# Altium schematic symbol library Schlib1.SchLib: 49 symbols
Pins are listed as number, name and electrical type; pins without a type are passive.

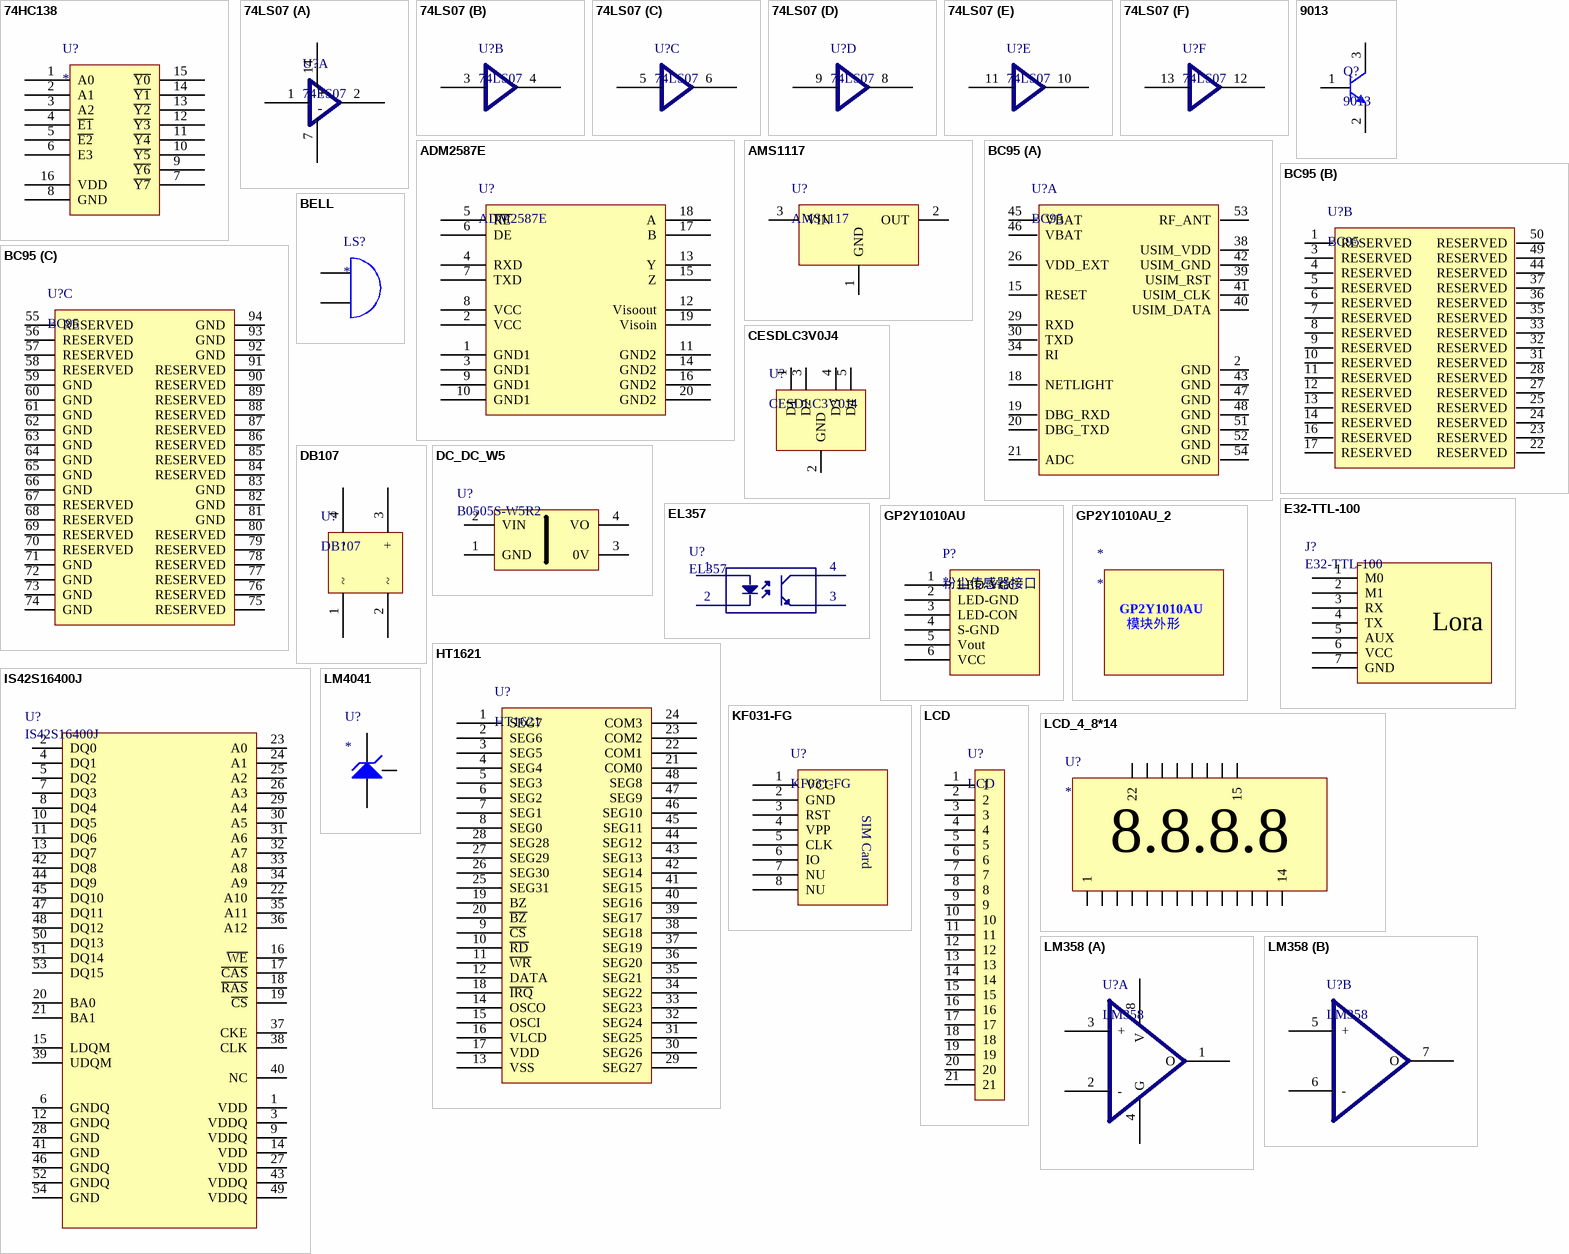
[diagram p0: symbols 74HC138 to LM4041]

## 74HC138
designator U?
pins: 1 A0, 2 A1, 3 A2, 4 ~{E1}, 5 ~{E2}, 6 E3, 7 ~{Y7}, 8 GND, 9 ~{Y6}, 10 ~{Y5}, 11 ~{Y4}, 12 ~{Y3}, 13 ~{Y2}, 14 ~{Y1}, 15 ~{Y0}, 16 VDD

## 74LS07
designator U?
part A pins: 1, 2, 7, 14
part B pins: 3, 4
part C pins: 5, 6
part D pins: 8, 9
part E pins: 10, 11
part F pins: 12, 13
part A text: +; -

## 9013
designator Q?
pins: 1 E, 2 B, 3 C

## ADM2587E
designator U?
pins: 1 GND1, 2 VCC, 3 GND1, 4 RXD, 5 ~{RE}, 6 DE, 7 TXD, 8 VCC, 9 GND1, 10 GND1, 11 GND2, 12 Visoout, 13 Y, 14 GND2, 15 Z, 16 GND2, 17 B, 18 A, 19 Visoin, 20 GND2

## AMS1117
designator U?
pins: 1 GND, 2 OUT, 3 VIN

## BC95
designator U?
part A pins: 2 GND, 15 RESET, 18 NETLIGHT, 19 DBG_RXD, 20 DBG_TXD, 21 ADC, 26 VDD_EXT, 29 RXD, 30 TXD, 34 RI, 38 USIM_VDD, 39 USIM_RST, 40 USIM_DATA, 41 USIM_CLK, 42 USIM_GND, 43 GND, 45 VBAT, 46 VBAT, 47 GND, 48 GND, 51 GND, 52 GND, 53 RF_ANT, 54 GND
part B pins: 1 RESERVED, 3 RESERVED, 4 RESERVED, 5 RESERVED, 6 RESERVED, 7 RESERVED, 8 RESERVED, 9 RESERVED, 10 RESERVED, 11 RESERVED, 12 RESERVED, 13 RESERVED, 14 RESERVED, 16 RESERVED, 17 RESERVED, 22 RESERVED, 23 RESERVED, 24 RESERVED, 25 RESERVED, 27 RESERVED, 28 RESERVED, 31 RESERVED, 32 RESERVED, 33 RESERVED, 35 RESERVED, 36 RESERVED, 37 RESERVED, 44 RESERVED, 49 RESERVED, 50 RESERVED
part C pins: 55 RESERVED, 56 RESERVED, 57 RESERVED, 58 RESERVED, 59 GND, 60 GND, 61 GND, 62 GND, 63 GND, 64 GND, 65 GND, 66 GND, 67 RESERVED, 68 RESERVED, 69 RESERVED, 70 RESERVED, 71 GND, 72 GND, 73 GND, 74 GND, 75 RESERVED, 76 RESERVED, 77 RESERVED, 78 RESERVED, 79 RESERVED, 80 RESERVED, 81 GND, 82 GND, 83 GND, 84 RESERVED, 85 RESERVED, 86 RESERVED, 87 RESERVED, 88 RESERVED, 89 RESERVED, 90 RESERVED, 91 RESERVED, 92 GND, 93 GND, 94 GND

## BELL
designator LS?
pins: 1 A, 2 B

## CESDLC3V0J4
designator U?
footprint CESDLC3V0J4
pins: 1 D1, 2 GND, 3 D2, 4 D3, 5 D4

## DB107
designator U?
pins: 1 ~, 2 ~, 3 +, 4 -

## DC_DC_W5
designator U?, comment B0505S-W5R2
DC-DC隔离模块，5V输出，0.5W; brand: 金升阳
pins: 1 GND, 2 VIN, 3 0V, 4 VO

## E32-TTL-100
designator J?
亿佰特Lora模块接口
pins: 1 M0, 2 M1, 3 RX, 4 TX, 5 AUX, 6 VCC, 7 GND
text: Lora

## EL357
designator U?
贴片光耦; brand: 亿光
pins: 1, 2, 3, 4

## GP2Y1010AU
designator P?, comment 粉尘传感器接口
pins: 1 LED-VCC, 2 LED-GND, 3 LED-CON, 4 S-GND, 5 Vout, 6 VCC

## GP2Y1010AU_2
designator *
text: GP2Y1010AU / 模块外形

## HT1621
designator U?
pins: 1 SEG7, 2 SEG6, 3 SEG5, 4 SEG4, 5 SEG3, 6 SEG2, 7 SEG1, 8 SEG0, 9 ~{CS}, 10 ~{RD}, 11 ~{WR}, 12 DATA, 13 VSS, 14 OSCO, 15 OSCI, 16 VLCD, 17 VDD, 18 ~{IRQ}, 19 BZ, 20 ~{BZ}, 21 COM0, 22 COM1, 23 COM2, 24 COM3, 25 SEG31, 26 SEG30, 27 SEG29, 28 SEG28, 29 SEG27, 30 SEG26, 31 SEG25, 32 SEG24, 33 SEG23, 34 SEG22, 35 SEG21, 36 SEG20, 37 SEG19, 38 SEG18, 39 SEG17, 40 SEG16, 41 SEG15, 42 SEG14, 43 SEG13, 44 SEG12, 45 SEG11, 46 SEG10, 47 SEG9, 48 SEG8

## IS42S16400J
designator U?
footprint TSOP(II)-54
pins: 1 VDD, 2 DQ0, 3 VDDQ, 4 DQ1, 5 DQ2, 6 GNDQ, 7 DQ3, 8 DQ4, 9 VDDQ, 10 DQ5, 11 DQ6, 12 GNDQ, 13 DQ7, 14 VDD, 15 LDQM, 16 ~{WE}, 17 ~{CAS}, 18 ~{RAS}, 19 ~{CS}, 20 BA0, 21 BA1, 22 A10, 23 A0, 24 A1, 25 A2, 26 A3, 27 VDD, 28 GND, 29 A4, 30 A5, 31 A6, 32 A7, 33 A8, 34 A9, 35 A11, 36 A12, 37 CKE, 38 CLK, 39 UDQM, 40 NC, 41 GND, 42 DQ8, 43 VDDQ, 44 DQ9, 45 DQ10, 46 GNDQ, 47 DQ11, 48 DQ12, 49 VDDQ, 50 DQ13, 51 DQ14, 52 GNDQ, 53 DQ15, 54 GND

## KF031-FG
designator U?
footprint KF031-FG (Footprint not found)
pins: 1 VCC, 2 GND, 3 RST, 4 VPP, 5 CLK, 6 IO, 7 NU, 8 NU
text: SIM Card

## LCD
designator U?
pins: 1, 2, 3, 4, 5, 6, 7, 8, 9, 10, 11, 12, 13, 14, 15, 16, 17, 18, 19, 20, 21

## LCD_4_8*14
designator U?
pins: 1, 2, 3, 4, 5, 6, 7, 8, 9, 10, 11, 12, 13, 14, 15, 16, 17, 18, 19, 20, 21, 22
text: 8.8.8.8

## LM358
designator U?
part A pins: 1 O, 2 -, 3 +, 4 G, 8 V
part B pins: 5 +, 6 -, 7 O

## LM4041
designator U?
pins: 1, 2, 3

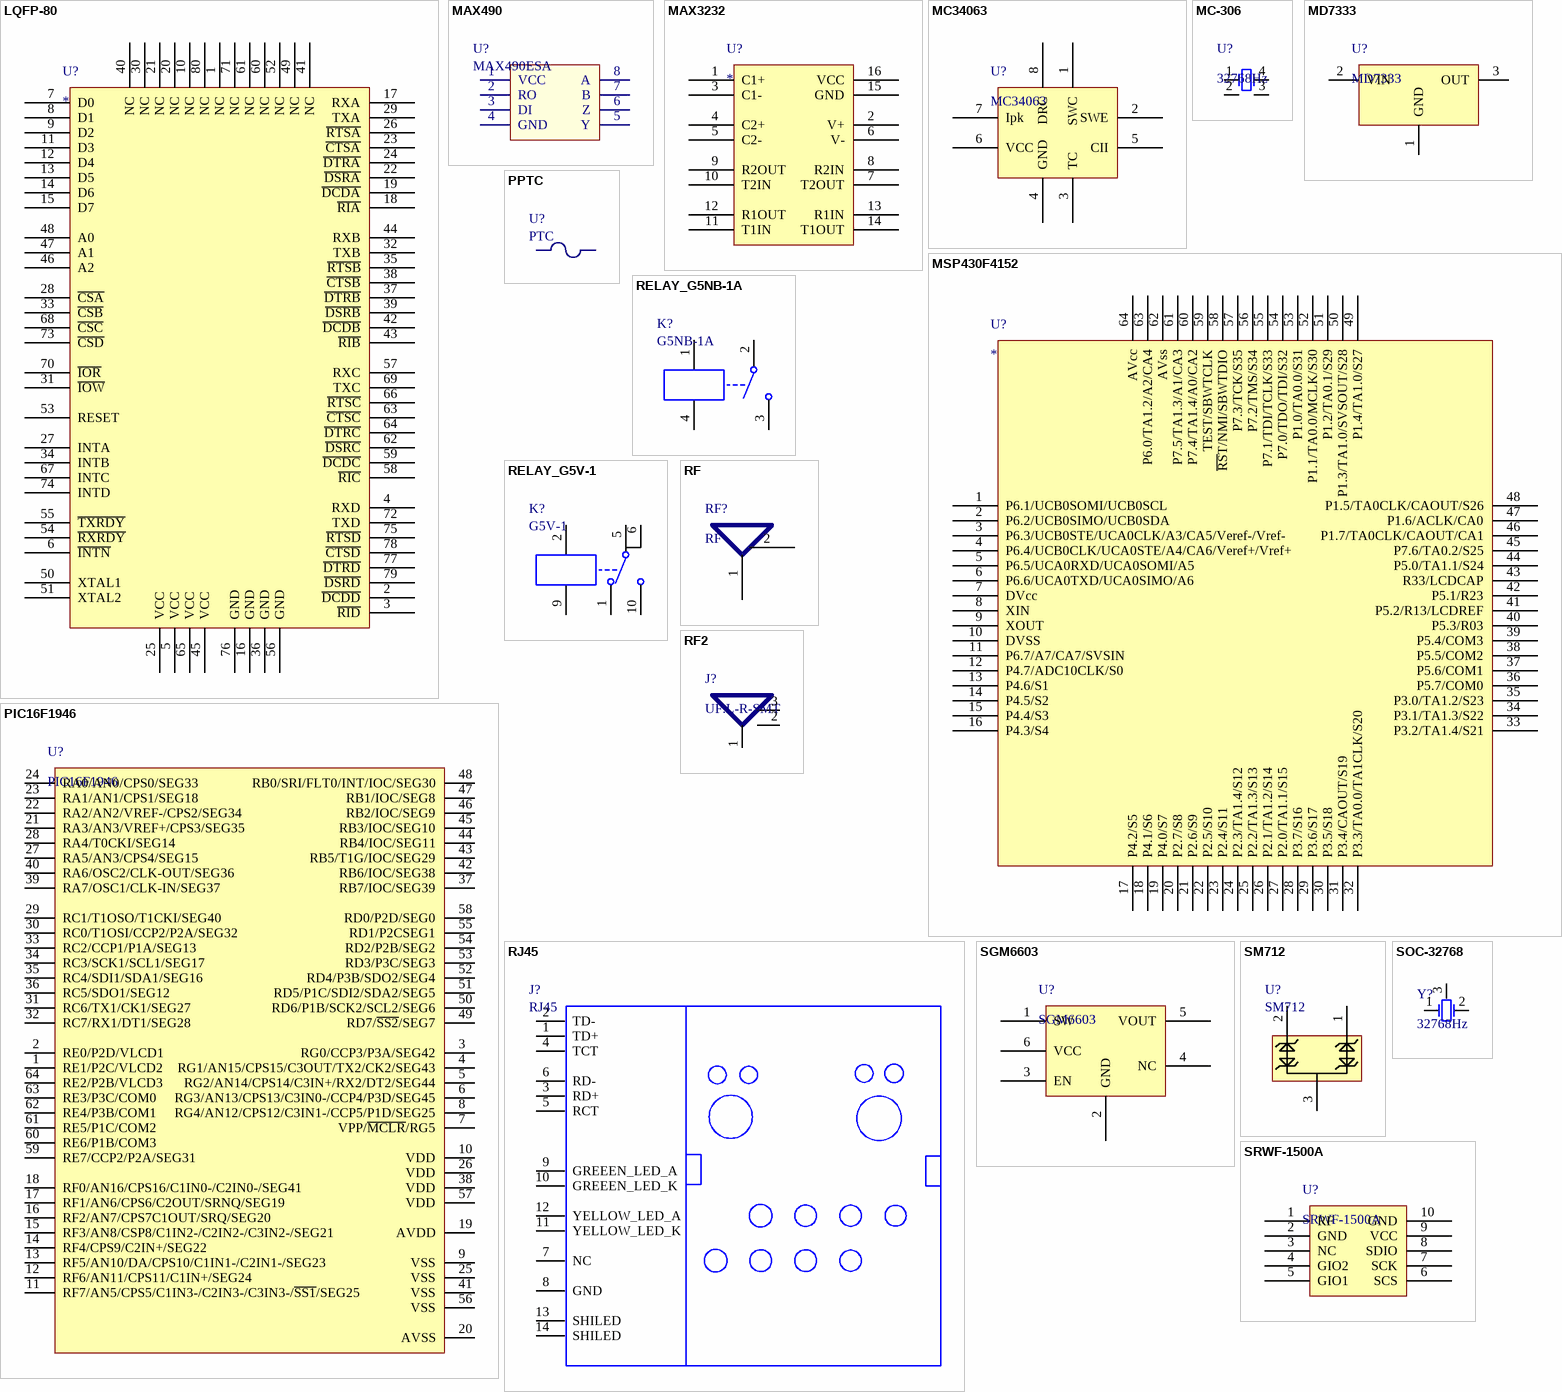
[diagram p1: symbols LQFP-80 to SRWF-1500A]

## LQFP-80
designator U?
pins: 1 NC, 2 ~{DCDD}, 3 ~{RID}, 4 RXD, 5 VCC, 6 ~{INTN}, 7 D0, 8 D1, 9 D2, 10 NC, 11 D3, 12 D4, 13 D5, 14 D6, 15 D7, 16 GND, 17 RXA, 18 ~{RIA}, 19 ~{DCDA}, 20 NC, 21 NC, 22 ~{DSRA}, 23 ~{CTSA}, 24 ~{DTRA}, 25 VCC, 26 ~{RTSA}, 27 INTA, 28 ~{CSA}, 29 TXA, 30 NC, 31 ~{IOW}, 32 TXB, 33 ~{CSB}, 34 INTB, 35 ~{RTSB}, 36 GND, 37 ~{DTRB}, 38 ~{CTSB}, 39 ~{DSRB}, 40 NC, 41 NC, 42 ~{DCDB}, 43 ~{RIB}, 44 RXB, 45 VCC, 46 A2, 47 A1, 48 A0, 49 NC, 50 XTAL1, 51 XTAL2, 52 NC, 53 RESET, 54 ~{RXRDY}, 55 ~{TXRDY}, 56 GND, 57 RXC, 58 ~{RIC}, 59 ~{DCDC}, 60 NC, 61 NC, 62 ~{DSRC}, 63 ~{CTSC}, 64 ~{DTRC}, 65 VCC, 66 ~{RTSC}, 67 INTC, 68 ~{CSC}, 69 TXC, 70 ~{IOR}, 71 NC, 72 TXD, 73 ~{CSD}, 74 INTD, 75 ~{RTSD}, 76 GND, 77 ~{DTRD}, 78 ~{CTSD}, 79 ~{DSRD}, 80 NC

## MAX490
designator U?, comment MAX490ESA
全双工485收发芯片; brand: MAXIM
pins: 1 VCC, 2 RO, 3 DI, 4 GND, 5 Y, 6 Z, 7 B, 8 A

## MAX3232
designator U?
pins: 1 C1+, 2 V+, 3 C1-, 4 C2+, 5 C2-, 6 V-, 7 T2OUT, 8 R2IN, 9 R2OUT, 10 T2IN, 11 T1IN, 12 R1OUT, 13 R1IN, 14 T1OUT, 15 GND, 16 VCC

## MC34063
designator U?
pins: 1 SWC, 2 SWE, 3 TC, 4 GND, 5 CII, 6 VCC, 7 Ipk, 8 DRC

## MC-306
designator U?, comment 32768Hz
pins: 1 OSC1, 2, 3, 4 OSC2

## MD7333
designator U?
pins: 1 GND, 2 VIN, 3 OUT

## MSP430F4152
designator U?
pins: 1 P6.1/UCB0SOMI/UCB0SCL, 2 P6.2/UCB0SIMO/UCB0SDA, 3 P6.3/UCB0STE/UCA0CLK/A3/CA5/Veref-/Vref-, 4 P6.4/UCB0CLK/UCA0STE/A4/CA6/Veref+/Vref+, 5 P6.5/UCA0RXD/UCA0SOMI/A5, 6 P6.6/UCA0TXD/UCA0SIMO/A6, 7 DVcc, 8 XIN, 9 XOUT, 10 DVSS, 11 P6.7/A7/CA7/SVSIN, 12 P4.7/ADC10CLK/S0, 13 P4.6/S1, 14 P4.5/S2, 15 P4.4/S3, 16 P4.3/S4, 17 P4.2/S5, 18 P4.1/S6, 19 P4.0/S7, 20 P2.7/S8, 21 P2.6/S9, 22 P2.5/S10, 23 P2.4/S11, 24 P2.3/TA1.4/S12, 25 P2.2/TA1.3/S13, 26 P2.1/TA1.2/S14, 27 P2.0/TA1.1/S15, 28 P3.7/S16, 29 P3.6/S17, 30 P3.5/S18, 31 P3.4/CAOUT/S19, 32 P3.3/TA0.0/TA1CLK/S20, 33 P3.2/TA1.4/S21, 34 P3.1/TA1.3/S22, 35 P3.0/TA1.2/S23, 36 P5.7/COM0, 37 P5.6/COM1, 38 P5.5/COM2, 39 P5.4/COM3, 40 P5.3/R03, 41 P5.2/R13/LCDREF, 42 P5.1/R23, 43 R33/LCDCAP, 44 P5.0/TA1.1/S24, 45 P7.6/TA0.2/S25, 46 P1.7/TA0CLK/CAOUT/CA1, 47 P1.6/ACLK/CA0, 48 P1.5/TA0CLK/CAOUT/S26, 49 P1.4/TA1.0/S27, 50 P1.3/TA1.0/SVSOUT/S28, 51 P1.2/TA0.1/S29, 52 P1.1/TA0.0/MCLK/S30, 53 P1.0/TA0.0/S31, 54 P7.0/TDO/TDI/S32, 55 P7.1/TDI/TCLK/S33, 56 P7.2/TMS/S34, 57 P7.3/TCK/S35, 58 ~{RS}T/NMI/SBWTDIO, 59 TEST/SBWTCLK, 60 P7.4/TA1.4/A0/CA2, 61 P7.5/TA1.3/A1/CA3, 62 AVss, 63 P6.0/TA1.2/A2/CA4, 64 AVcc

## PIC16F1946
designator U?
pins: 1 RE1/P2C/VLCD2, 2 RE0/P2D/VLCD1, 3 RG0/CCP3/P3A/SEG42, 4 RG1/AN15/CPS15/C3OUT/TX2/CK2/SEG43, 5 RG2/AN14/CPS14/C3IN+/RX2/DT2/SEG44, 6 RG3/AN13/CPS13/C3IN0-/CCP4/P3D/SEG45, 7 VPP/~{MCLR}/RG5, 8 RG4/AN12/CPS12/C3IN1-/CCP5/P1D/SEG25, 9 VSS, 10 VDD, 11 RF7/AN5/CPS5/C1IN3-/C2IN3-/C3IN3-/~{SS1}/SEG25, 12 RF6/AN11/CPS11/C1IN+/SEG24, 13 RF5/AN10/DA/CPS10/C1IN1-/C2IN1-/SEG23, 14 RF4/CPS9/C2IN+/SEG22, 15 RF3/AN8/CSP8/C1IN2-/C2IN2-/C3IN2-/SEG21, 16 RF2/AN7/CPS7C1OUT/SRQ/SEG20, 17 RF1/AN6/CPS6/C2OUT/SRNQ/SEG19, 18 RF0/AN16/CPS16/C1IN0-/C2IN0-/SEG41, 19 AVDD, 20 AVSS, 21 RA3/AN3/VREF+/CPS3/SEG35, 22 RA2/AN2/VREF-/CPS2/SEG34, 23 RA1/AN1/CPS1/SEG18, 24 RA0/AN0/CPS0/SEG33, 25 VSS, 26 VDD, 27 RA5/AN3/CPS4/SEG15, 28 RA4/T0CKI/SEG14, 29 RC1/T1OSO/T1CKI/SEG40, 30 RC0/T1OSI/CCP2/P2A/SEG32, 31 RC6/TX1/CK1/SEG27, 32 RC7/RX1/DT1/SEG28, 33 RC2/CCP1/P1A/SEG13, 34 RC3/SCK1/SCL1/SEG17, 35 RC4/SDI1/SDA1/SEG16, 36 RC5/SDO1/SEG12, 37 RB7/IOC/SEG39, 38 VDD, 39 RA7/OSC1/CLK-IN/SEG37, 40 RA6/OSC2/CLK-OUT/SEG36, 41 VSS, 42 RB6/IOC/SEG38, 43 RB5/T1G/IOC/SEG29, 44 RB4/IOC/SEG11, 45 RB3/IOC/SEG10, 46 RB2/IOC/SEG9, 47 RB1/IOC/SEG8, 48 RB0/SRI/FLT0/INT/IOC/SEG30, 49 RD7/~{SS2}/SEG7, 50 RD6/P1B/SCK2/SCL2/SEG6, 51 RD5/P1C/SDI2/SDA2/SEG5, 52 RD4/P3B/SDO2/SEG4, 53 RD3/P3C/SEG3, 54 RD2/P2B/SEG2, 55 RD1/P2CSEG1, 56 VSS, 57 VDD, 58 RD0/P2D/SEG0, 59 RE7/CCP2/P2A/SEG31, 60 RE6/P1B/COM3, 61 RE5/P1C/COM2, 62 RE4/P3B/COM1, 63 RE3/P3C/COM0, 64 RE2/P2B/VLCD3

## PPTC
designator U?, comment PTC
保险丝
pins: 1, 2

## RELAY_G5NB-1A
designator K?, comment G5NB-1A
小型继电器，耐10KV冲击电压，1极3A; brand: 欧姆龙
pins: 1, 2, 3, 4

## RELAY_G5V-1
designator K?, comment G5V-1
小型继电器，一路双道; brand: 欧姆龙
pins: 1, 2, 5, 6, 9, 10

## RF
designator RF?
pins: 1, 2

## RF2
designator J?, comment UF.L-R-SMT
footprint UF.L-R-SMT
pins: 1, 2, 3

## RJ45
designator J?
带变压器，带LED灯
pins: 1 TD+, 2 TD-, 3 RD+, 4 TCT, 5 RCT, 6 RD-, 7 NC, 8 GND, 9 GREEEN_LED_A, 10 GREEEN_LED_K, 11 YELLOW_LED_K, 12 YELLOW_LED_A, 13 SHILED, 14 SHILED

## SGM6603
designator U?
DC-DC升压; Company: 北京圣邦微
pins: 1 SW, 2 GND, 3 EN, 4 NC, 5 VOUT, 6 VCC

## SM712
designator U?
TVS阵列，485芯片专用; brand: 力特
pins: 1, 2, 3

## SOC-32768
designator Y?, comment 32768Hz
pins: 1 OSC1, 2 OSC2, 3

## SRWF-1500A
designator U?
pins: 1 RF, 2 GND, 3 NC, 4 GIO2, 5 GIO1, 6 SCS, 7 SCK, 8 SDIO, 9 VCC, 10 GND

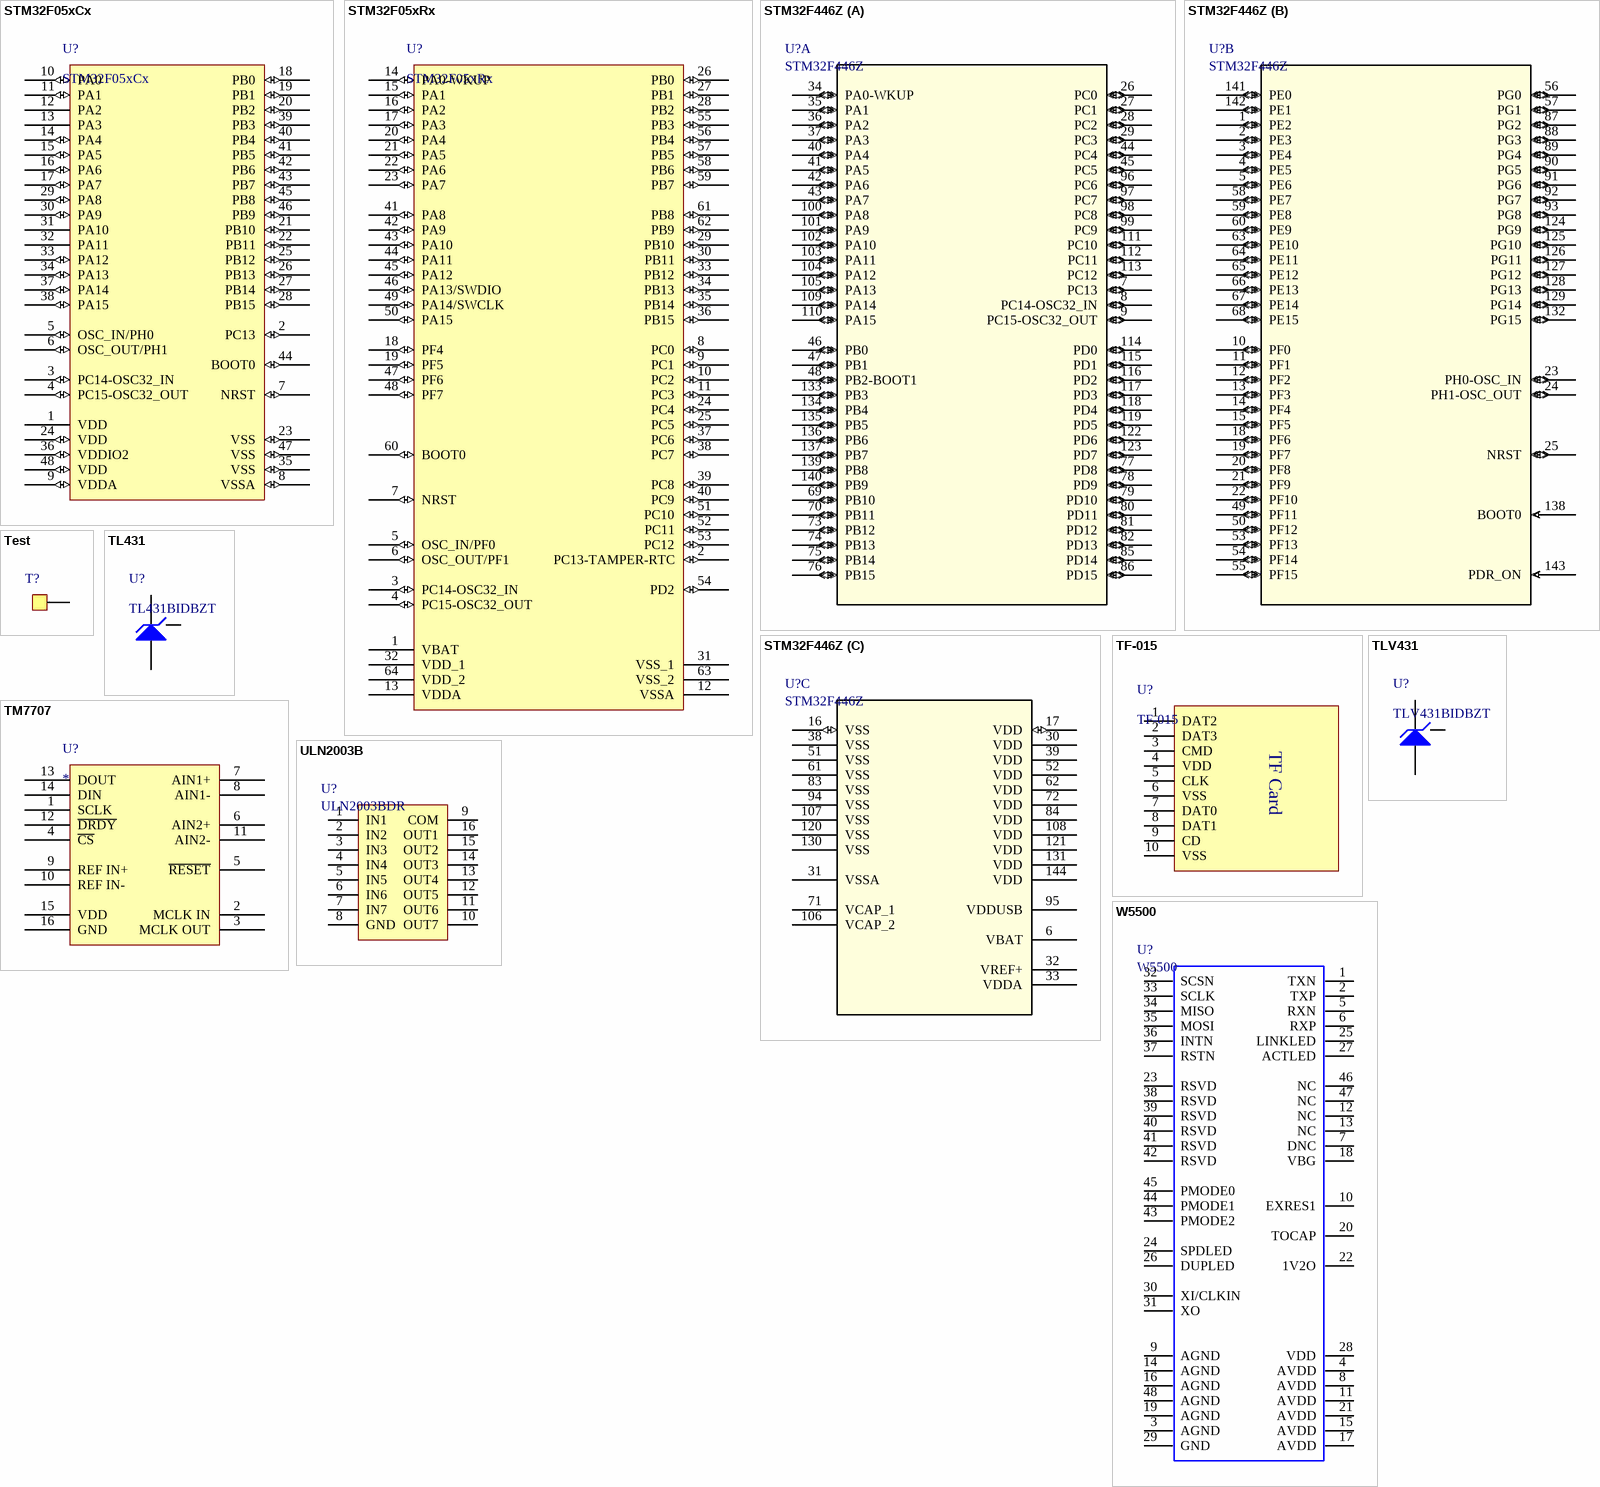
[diagram p2: symbols STM32F05xCx to W5500]

## STM32F05xCx
designator U?
pins: 1 VDD (power), 2 PC13 (io), 3 PC14-OSC32_IN (io), 4 PC15-OSC32_OUT (io), 5 OSC_IN/PH0 (io), 6 OSC_OUT/PH1 (io), 7 NRST (io), 8 VSSA (io), 9 VDDA (io), 10 PA0 (io), 11 PA1 (io), 12 PA2 (power), 13 PA3 (power), 14 PA4 (io), 15 PA5 (io), 16 PA6 (io), 17 PA7 (io), 18 PB0 (io), 19 PB1 (io), 20 PB2 (io), 21 PB10 (io), 22 PB11 (io), 23 VSS (io), 24 VDD (io), 25 PB12 (io), 26 PB13 (io), 27 PB14 (io), 28 PB15 (io), 29 PA8 (io), 30 PA9 (io), 31 PA10 (power), 32 PA11 (power), 33 PA12 (io), 34 PA13 (io), 35 VSS (io), 36 VDDIO2 (io), 37 PA14 (io), 38 PA15 (io), 39 PB3 (io), 40 PB4 (io), 41 PB5 (io), 42 PB6 (io), 43 PB7 (io), 44 BOOT0 (io), 45 PB8 (io), 46 PB9 (io), 47 VSS (io), 48 VDD (io)

## STM32F05xRx
designator U?
pins: 1 VBAT (power), 2 PC13-TAMPER-RTC (io), 3 PC14-OSC32_IN (io), 4 PC15-OSC32_OUT (io), 5 OSC_IN/PF0 (io), 6 OSC_OUT/PF1 (io), 7 NRST (io), 8 PC0 (io), 9 PC1 (io), 10 PC2 (io), 11 PC3 (io), 12 VSSA (power), 13 VDDA (power), 14 PA0-WKUP (io), 15 PA1 (io), 16 PA2 (io), 17 PA3 (io), 18 PF4 (io), 19 PF5 (io), 20 PA4 (io), 21 PA5 (io), 22 PA6 (io), 23 PA7 (io), 24 PC4 (io), 25 PC5 (io), 26 PB0 (io), 27 PB1 (io), 28 PB2 (io), 29 PB10 (io), 30 PB11 (io), 31 VSS_1 (power), 32 VDD_1 (power), 33 PB12 (io), 34 PB13 (io), 35 PB14 (io), 36 PB15 (io), 37 PC6 (io), 38 PC7 (io), 39 PC8 (io), 40 PC9 (io), 41 PA8 (io), 42 PA9 (io), 43 PA10 (io), 44 PA11 (io), 45 PA12 (io), 46 PA13/SWDIO (io), 47 PF6 (io), 48 PF7 (io), 49 PA14/SWCLK (io), 50 PA15 (io), 51 PC10 (io), 52 PC11 (io), 53 PC12 (io), 54 PD2 (io), 55 PB3 (io), 56 PB4 (io), 57 PB5 (io), 58 PB6 (io), 59 PB7 (io), 60 BOOT0 (io), 61 PB8 (io), 62 PB9 (io), 63 VSS_2 (power), 64 VDD_2 (power)

## STM32F446Z
designator U?
brand: ST
footprint LQFP-144
part A pins: 7 PC13 (io), 8 PC14-OSC32_IN (io), 9 PC15-OSC32_OUT (io), 26 PC0 (io), 27 PC1 (io), 28 PC2 (io), 29 PC3 (io), 34 PA0-WKUP (io), 35 PA1 (io), 36 PA2 (io), 37 PA3 (io), 40 PA4 (io), 41 PA5 (io), 42 PA6 (io), 43 PA7 (io), 44 PC4 (io), 45 PC5 (io), 46 PB0 (io), 47 PB1 (io), 48 PB2-BOOT1 (io), 69 PB10 (io), 70 PB11 (io), 73 PB12 (io), 74 PB13 (io), 75 PB14 (io), 76 PB15 (io), 77 PD8 (io), 78 PD9 (io), 79 PD10 (io), 80 PD11 (io), 81 PD12 (io), 82 PD13 (io), 85 PD14 (io), 86 PD15 (io), 96 PC6 (io), 97 PC7 (io), 98 PC8 (io), 99 PC9 (io), 100 PA8 (io), 101 PA9 (io), 102 PA10 (io), 103 PA11 (io), 104 PA12 (io), 105 PA13 (io), 109 PA14 (io), 110 PA15 (io), 111 PC10 (io), 112 PC11 (io), 113 PC12 (io), 114 PD0 (io), 115 PD1 (io), 116 PD2 (io), 117 PD3 (io), 118 PD4 (io), 119 PD5 (io), 122 PD6 (io), 123 PD7 (io), 133 PB3 (io), 134 PB4 (io), 135 PB5 (io), 136 PB6 (io), 137 PB7 (io), 139 PB8 (io), 140 PB9 (io)
part B pins: 1 PE2 (io), 2 PE3 (io), 3 PE4 (io), 4 PE5 (io), 5 PE6 (io), 10 PF0 (io), 11 PF1 (io), 12 PF2 (io), 13 PF3 (io), 14 PF4 (io), 15 PF5 (io), 18 PF6 (io), 19 PF7 (io), 20 PF8 (io), 21 PF9 (io), 22 PF10 (io), 23 PH0-OSC_IN (io), 24 PH1-OSC_OUT (io), 25 NRST (io), 49 PF11 (io), 50 PF12 (io), 53 PF13 (io), 54 PF14 (io), 55 PF15 (io), 56 PG0 (io), 57 PG1 (io), 58 PE7 (io), 59 PE8 (io), 60 PE9 (io), 63 PE10 (io), 64 PE11 (io), 65 PE12 (io), 66 PE13 (io), 67 PE14 (io), 68 PE15 (io), 87 PG2 (io), 88 PG3 (io), 89 PG4 (io), 90 PG5 (io), 91 PG6 (io), 92 PG7 (io), 93 PG8 (io), 124 PG9 (io), 125 PG10 (io), 126 PG11 (io), 127 PG12 (io), 128 PG13 (io), 129 PG14 (io), 132 PG15 (io), 138 BOOT0 (in), 141 PE0 (io), 142 PE1 (io), 143 PDR_ON (in)
part C pins: 6 VBAT (power), 16 VSS (io), 17 VDD (io), 30 VDD (power), 31 VSSA (power), 32 VREF+ (power), 33 VDDA (power), 38 VSS (power), 39 VDD (power), 51 VSS (power), 52 VDD (power), 61 VSS (power), 62 VDD (power), 71 VCAP_1 (power), 72 VDD (power), 83 VSS (power), 84 VDD (power), 94 VSS (power), 95 VDDUSB (power), 106 VCAP_2 (power), 107 VSS (power), 108 VDD (power), 120 VSS (power), 121 VDD (power), 130 VSS (power), 131 VDD (power), 144 VDD (power)

## Test
designator T?, comment T  (value not drawn)
测试点
footprint test
pins: 1

## TF-015
designator U?
自弹式TF卡插槽; brand: 台湾硕方
footprint TF-015
pins: 1 DAT2, 2 DAT3, 3 CMD, 4 VDD, 5 CLK, 6 VSS, 7 DAT0, 8 DAT1, 9 CD, 10 VSS
text: TF Card

## TL431
designator U?, comment TL431BIDBZT
pins: 1, 2, 3

## TLV431
designator U?, comment TLV431BIDBZT
1.24V基准电压芯片
pins: 1, 2, 3

## TM7707
designator U?
pins: 1 SCLK, 2 MCLK IN, 3 MCLK OUT, 4 ~{CS}, 5 ~{RESET}, 6 AIN2+, 7 AIN1+, 8 AIN1-, 9 REF IN+, 10 REF IN-, 11 AIN2-, 12 ~{DRDY}, 13 DOUT, 14 DIN, 15 VDD, 16 GND

## ULN2003B
designator U?, comment ULN2003BDR
贴片封装; brand: TI
pins: 1 IN1, 2 IN2, 3 IN3, 4 IN4, 5 IN5, 6 IN6, 7 IN7, 8 GND, 9 COM, 10 OUT7, 11 OUT6, 12 OUT5, 13 OUT4, 14 OUT3, 15 OUT2, 16 OUT1

## W5500
designator U?
网口芯片
pins: 1 TXN, 2 TXP, 3 AGND, 4 AVDD, 5 RXN, 6 RXP, 7 DNC, 8 AVDD, 9 AGND, 10 EXRES1, 11 AVDD, 12 NC, 13 NC, 14 AGND, 15 AVDD, 16 AGND, 17 AVDD, 18 VBG, 19 AGND, 20 TOCAP, 21 AVDD, 22 1V2O, 23 RSVD, 24 SPDLED, 25 LINKLED, 26 DUPLED, 27 ACTLED, 28 VDD, 29 GND, 30 XI/CLKIN, 31 XO, 32 SCSN, 33 SCLK, 34 MISO, 35 MOSI, 36 INTN, 37 RSTN, 38 RSVD, 39 RSVD, 40 RSVD, 41 RSVD, 42 RSVD, 43 PMODE2, 44 PMODE1, 45 PMODE0, 46 NC, 47 NC, 48 AGND